# Altium schematic symbol library PKLCS1212E4001-R1.SchLib: 2 symbols
Pins are listed as number, name and electrical type; pins without a type are passive.

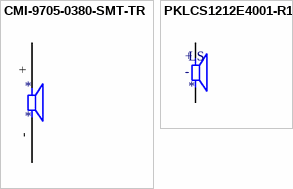
[diagram p0: symbols CMI-9705-0380-SMT-TR to PKLCS1212E4001-R1]

## CMI-9705-0380-SMT-TR
designator *
/ Buzzers Indicator, Internally Driven Magnetic 3V 30mA 2.7kHz 80dB @ 3V, 10cm Surface Mount Solder Pads; Manufacturer: CUI; Manufacturer Part Number: CMI-9705-0380-SMT-TR; Supplier 1: Digi-Key; Supplier Part Number 1: 102-CMI-9705-0380-SMT-CT-ND; RoHS: No; Stock 1: 1816; Pricing 1: 1=2.06000, 10=1.71300, 25=1.58320, 50=1.48880, 100=1.39780 (USD)
pins: +, -

## PKLCS1212E4001-R1
designator LS
Buzzers Transducer, Externally Driven Piezo 1.5V 4kHz 84dB @ 1.5V, 10cm Surface Mount Solder Pads; MF: Murata; MP: PKLCS1212E4001-R1; Value: *; SnapEDA_Link: https://www.snapeda.com/parts/PKLCS1212E4001-R1/Murata/view-part/4970519/?ref=snap; Arrow_Electronics-Purchase-URL: https://snapeda.com/shop?store=Arrow+Electronics&id=4970519; Mouser-Purchase-URL: https://snapeda.com/shop?store=Mouser&id=4970519; Digi-Key_Part_Number: 490-4683-1-ND; Package: SMD-2 Murata; DigiKey-Purchase-URL: https://snapeda.com/shop?store=DigiKey&id=4970519
footprint SPKR_PKLCS1212E4001-R1
pins: N, P
text: +; -